# EAGLE library part 4044 (library 40xxDIN)
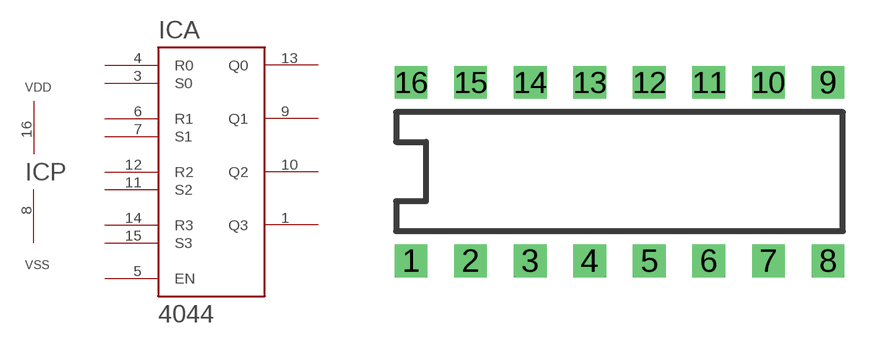
[diagram p29: symbol with the pads of DIL16; footprint DIL16]

Designator prefix IC; gates A=4044 P=PWRN

## 4044  [DIL16]
1  A:Q3  out
3  A:S0  in
4  A:R0  in
5  A:EN  in
6  A:R1  in
7  A:S1  in
8  P:VSS  pwr
9  A:Q1  out
10  A:Q2  out
11  A:S2  in
12  A:R2  in
13  A:Q0  out
14  A:R3  in
15  A:S3  in
16  P:VDD  pwr

## Footprint DIL16 (pad centres in mm)
drill 0.8 pad 1.397 square: 1 0,0; 2 2.54,0; 3 5.08,0; 4 7.62,0; 5 10.16,0; 6 12.7,0; 7 15.24,0; 8 17.78,0; 9 17.78,7.62; 10 15.24,7.62; 11 12.7,7.62; 12 10.16,7.62; 13 7.62,7.62; 14 5.08,7.62; 15 2.54,7.62; 16 0,7.62